# Altium integrated library Linear Technology Power Management Switching Regulator LTC1174-LTC3901.IntLib: 2647 symbols (part 117 of 364)
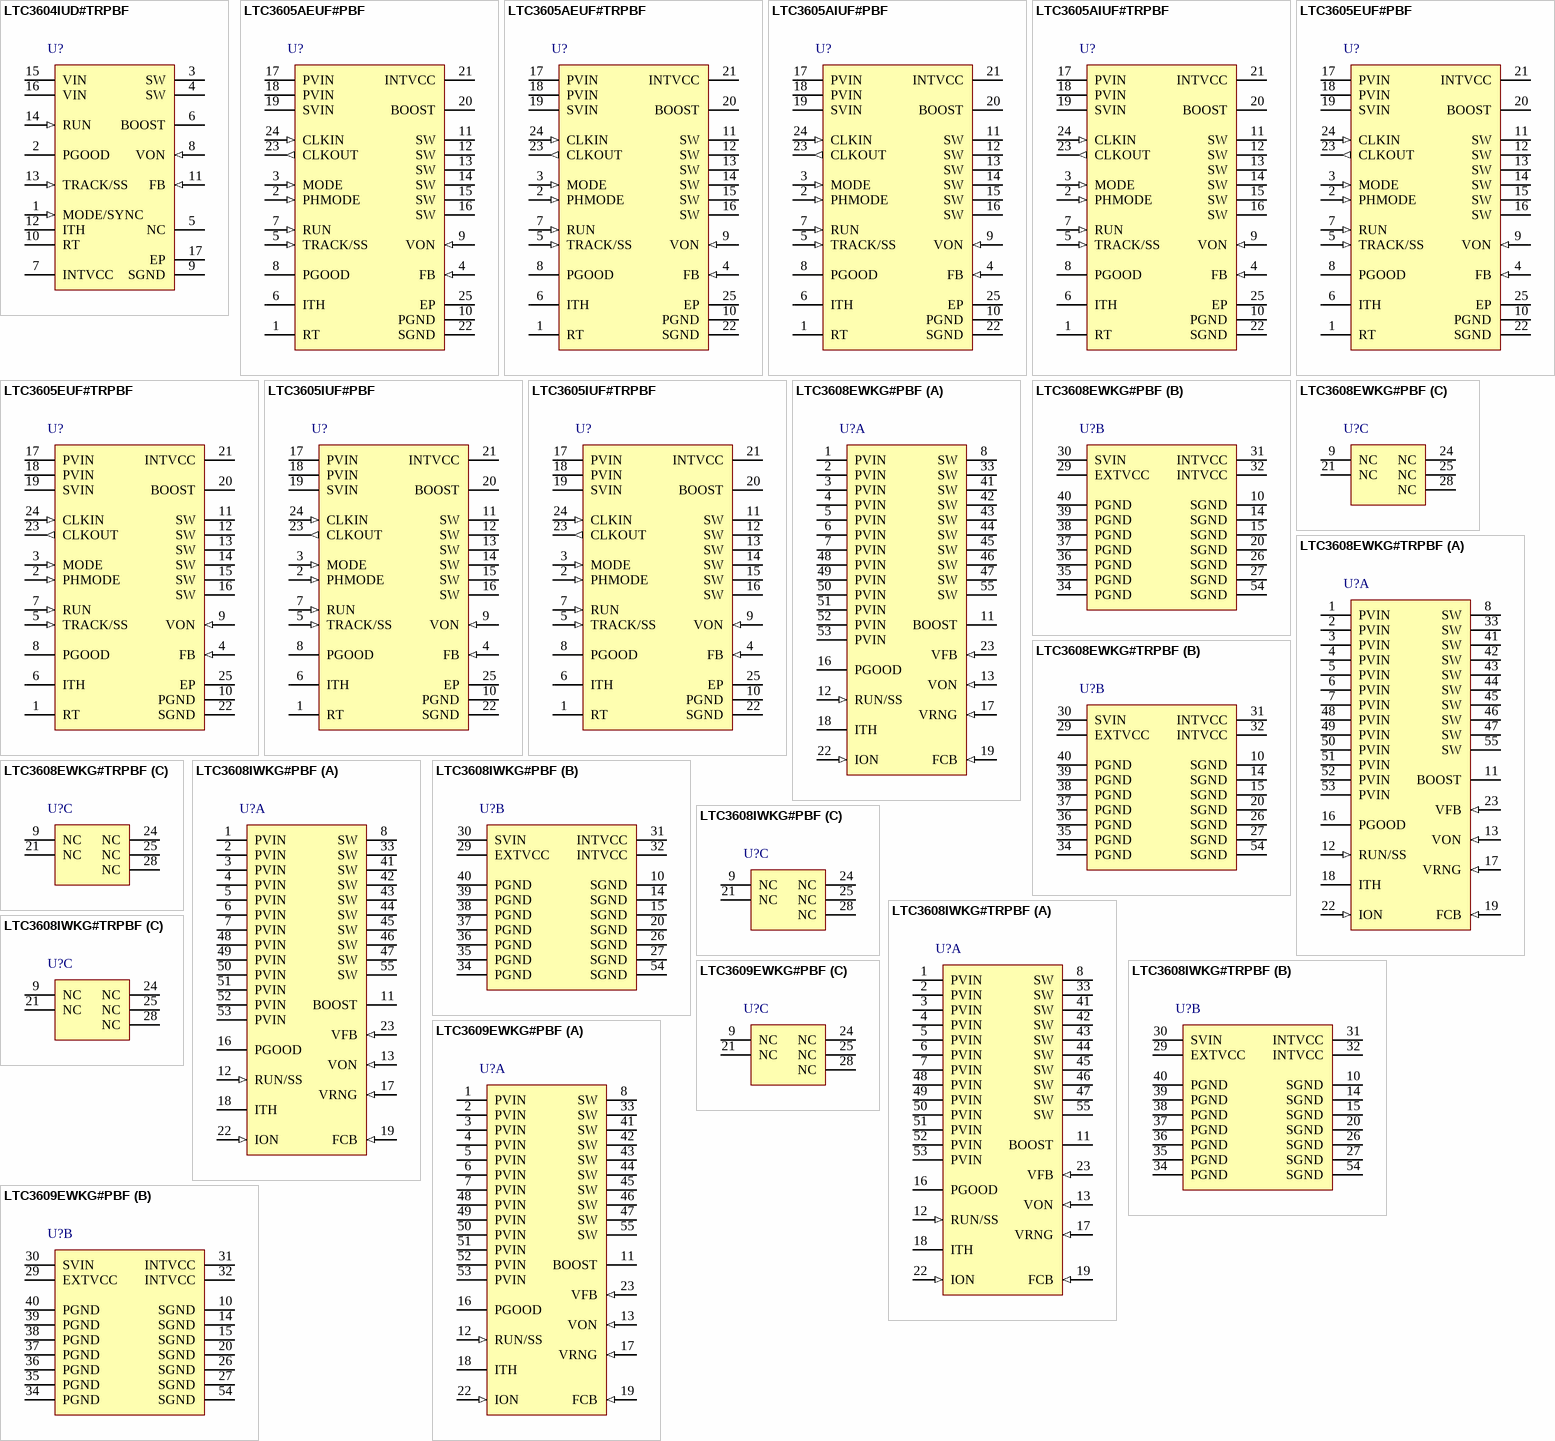
[diagram p175: symbols LTC3604IUD#TRPBF to LTC3609EWKG#PBF]

## LTC3608IWKG#PBF
designator U?
8 A Monolithic Synchronous Step-Down DC/DC Converter, 52-pin QFN (WKG-52-MPAD), -40 to 125 degC, Pb-Free; Manufacturer: Linear Technology; PartNumber: LTC3608IWKG#PBF; Number of Outputs: 1; DatasheetVersion: Rev. C; PackageVersion: Rev. A, 05/2010; PackageReference: WKG-52; PackageDescription: 52-Pin QFN Multipad, Body 8 x 7 mm, Pitch 0.5 mm; Supplier 1: Digi-Key; Supplier Part Number 1: LTC3608IWKG#PBF-ND; Supplier 2: Farnell; Supplier Part Number 2: 2295096; Supplier 3: Newark; Supplier Part Number 3: 02P7582; RoHS: TRUE; Mounting Technology: Surface Mount; ComponentLink1Description: Manufacturer URL; ComponentLink1URL: http://www.linear.com/; ComponentLink2Description: Datasheet; ComponentLink2URL: http://cds.linear.com/docs/en/datasheet/3608fc.pdf; ComponentLink3Description: Package Specification; ComponentLink3URL: http://cds.linear.com/docs/en/packaging/05081768_A_WKG52.pdf
footprint LT-WKG-52-MPAD_V (QFN, 52-Leads, Body 8x7mm, Pitch 0.5mm)
part A pins: 1 PVIN (power) "Main Input Supply. Decouple this pin to power PGND with the input capacitance, CIN.", 2 PVIN (power) "Main Input Supply. Decouple this pin to power PGND with the input capacitance, CIN.", 3 PVIN (power) "Main Input Supply. Decouple this pin to power PGND with the input capacitance, CIN.", 4 PVIN (power) "Main Input Supply. Decouple this pin to power PGND with the input capacitance, CIN.", 5 PVIN (power) "Main Input Supply. Decouple this pin to power PGND with the input capacitance, CIN.", 6 PVIN (power) "Main Input Supply. Decouple this pin to power PGND with the input capacitance, CIN.", 7 PVIN (power) "Main Input Supply. Decouple this pin to power PGND with the input capacitance, CIN.", 8 SW (power) "Switch Node Connection to the Inductor. The (-) terminal of the bootstrap capacitor, CB, also connects here. This pin swings from a diode voltage drop below ground up to VIN.", 11 BOOST "Boosted Floating Driver Supply. The (+) terminal of the bootstrap capacitor, CB, connects here. This pin swings from a diode voltage drop below INTVCC up to VIN + INTVCC.", 12 RUN/SS (in) "Run Control and Soft-Start Input. A capacitor to ground at this pin sets the ramp time to full output current (approximately 3s/uF) and the time delay for overcurrent latchoff (see Applications Information). Forcing this pin (See Datasheet)", 13 VON (in) "On-Time Voltage Input. Voltage trip point for the on-time comparator. Tying this pin to the output voltage or an external resistive divider from the output makes the on-time proportional to VOUT. The comparator input (See Datasheet)", 16 PGOOD (oc) "Power Good Output. Open-drain logic output that is pulled to ground when the output voltage is not within +/- 10% of the regulation point.", 17 VRNG (in) "Current Limit Range Input.", 18 ITH "Current Control Threshold and Error Amplifier Compensation Point. The current comparator threshold increases with this control voltage. The voltage ranges from 0V to 2.4V with 0.8V corresponding to zero sense voltage (zero (See Datasheet)", 19 FCB (in) "Forced Continuous Input. Tie this pin to ground to force continuous synchronous operation at low load, to INTVCC to enable discontinuous mode operation at low load or to a resistive divider from a secondary output when using (See Datasheet)", 22 ION (in) "On-Time Current Input. Tie a resistor from VIN to this pin to set the one-shot timer current and thereby set the switching frequency.", 23 VFB (in) "Error Amplifier Feedback Input. This pin connects the error amplifier input to an external resistive divider from VOUT.", 33 SW (power) "Switch Node Connection to the Inductor. The (-) terminal of the bootstrap capacitor, CB, also connects here. This pin swings from a diode voltage drop below ground up to VIN.", 41 SW (power) "Switch Node Connection to the Inductor. The (-) terminal of the bootstrap capacitor, CB, also connects here. This pin swings from a diode voltage drop below ground up to VIN.", 42 SW (power) "Switch Node Connection to the Inductor. The (-) terminal of the bootstrap capacitor, CB, also connects here. This pin swings from a diode voltage drop below ground up to VIN.", 43 SW (power) "Switch Node Connection to the Inductor. The (-) terminal of the bootstrap capacitor, CB, also connects here. This pin swings from a diode voltage drop below ground up to VIN.", 44 SW (power) "Switch Node Connection to the Inductor. The (-) terminal of the bootstrap capacitor, CB, also connects here. This pin swings from a diode voltage drop below ground up to VIN.", 45 SW (power) "Switch Node Connection to the Inductor. The (-) terminal of the bootstrap capacitor, CB, also connects here. This pin swings from a diode voltage drop below ground up to VIN.", 46 SW (power) "Switch Node Connection to the Inductor. The (-) terminal of the bootstrap capacitor, CB, also connects here. This pin swings from a diode voltage drop below ground up to VIN.", 47 SW (power) "Switch Node Connection to the Inductor. The (-) terminal of the bootstrap capacitor, CB, also connects here. This pin swings from a diode voltage drop below ground up to VIN.", 48 PVIN (power) "Main Input Supply. Decouple this pin to power PGND with the input capacitance, CIN.", 49 PVIN (power) "Main Input Supply. Decouple this pin to power PGND with the input capacitance, CIN.", 50 PVIN (power) "Main Input Supply. Decouple this pin to power PGND with the input capacitance, CIN.", 51 PVIN (power) "Main Input Supply. Decouple this pin to power PGND with the input capacitance, CIN.", 52 PVIN (power) "Main Input Supply. Decouple this pin to power PGND with the input capacitance, CIN.", 53 PVIN (power) "Main Input Supply. Decouple this pin to power PGND with the input capacitance, CIN.", 55 SW (power) "Switch Node Connection to the Inductor. The (-) terminal of the bootstrap capacitor, CB, also connects here. This pin swings from a diode voltage drop below ground up to VIN."
part B pins: 10 SGND (power) "Signal Ground. All small-signal components and compensation components should connect to this ground, which in turn connects to PGND at one point.", 14 SGND (power) "Signal Ground. All small-signal components and compensation components should connect to this ground, which in turn connects to PGND at one point.", 15 SGND (power) "Signal Ground. All small-signal components and compensation components should connect to this ground, which in turn connects to PGND at one point.", 20 SGND (power) "Signal Ground. All small-signal components and compensation components should connect to this ground, which in turn connects to PGND at one point.", 26 SGND (power) "Signal Ground. All small-signal components and compensation components should connect to this ground, which in turn connects to PGND at one point.", 27 SGND (power) "Signal Ground. All small-signal components and compensation components should connect to this ground, which in turn connects to PGND at one point.", 29 EXTVCC (power) "External VCC Input. When EXTVCC exceeds 4.7V, an internal switch connects this pin to INTVCC and shuts down the internal regulator so that controller and gate drive power is drawn from EXTVCC. Do not exceed 7V at this pin (See Datasheet)", 30 SVIN (power) "Supply Pin for Internal PWM Controller.", 31 INTVCC (power) "Internal 5V Regulator Output. The driver and control circuits are powered from this voltage. Decouple this pin to power ground with a minimum of 4.7uF low ESR tantalum or ceramic capacitor.", 32 INTVCC (power) "Internal 5V Regulator Output. The driver and control circuits are powered from this voltage. Decouple this pin to power ground with a minimum of 4.7uF low ESR tantalum or ceramic capacitor.", 34 PGND (power) "Power Ground. Connect this pin closely to the (-) terminal of CVCC and the (-) terminal of CIN.", 35 PGND (power) "Power Ground. Connect this pin closely to the (-) terminal of CVCC and the (-) terminal of CIN.", 36 PGND (power) "Power Ground. Connect this pin closely to the (-) terminal of CVCC and the (-) terminal of CIN.", 37 PGND (power) "Power Ground. Connect this pin closely to the (-) terminal of CVCC and the (-) terminal of CIN.", 38 PGND (power) "Power Ground. Connect this pin closely to the (-) terminal of CVCC and the (-) terminal of CIN.", 39 PGND (power) "Power Ground. Connect this pin closely to the (-) terminal of CVCC and the (-) terminal of CIN.", 40 PGND (power) "Power Ground. Connect this pin closely to the (-) terminal of CVCC and the (-) terminal of CIN.", 54 SGND (power) "Signal Ground. All small-signal components and compensation components should connect to this ground, which in turn connects to PGND at one point."
part C pins: 9 NC "No Connection.", 21 NC "No Connection.", 24 NC "No Connection.", 25 NC "No Connection.", 28 NC "No Connection."

## LTC3608IWKG#TRPBF
designator U?
8 A Monolithic Synchronous Step-Down DC/DC Converter, 52-pin QFN (WKG-52-MPAD), -40 to 125 degC, Pb-Free, Tape and Reel; Manufacturer: Linear Technology; PartNumber: LTC3608IWKG#TRPBF; Number of Outputs: 1; DatasheetVersion: Rev. C; PackageVersion: Rev. A, 05/2010; PackageReference: WKG-52; PackageDescription: 52-Pin QFN Multipad, Body 8 x 7 mm, Pitch 0.5 mm; Supplier 1: Digi-Key; Supplier Part Number 1: LTC3608IWKG#TRPBF-ND; Packing: Tape and Reel; RoHS: TRUE; Mounting Technology: Surface Mount; ComponentLink1Description: Manufacturer URL; ComponentLink1URL: http://www.linear.com/; ComponentLink2Description: Datasheet; ComponentLink2URL: http://cds.linear.com/docs/en/datasheet/3608fc.pdf; ComponentLink3Description: Package Specification; ComponentLink3URL: http://cds.linear.com/docs/en/packaging/05081768_A_WKG52.pdf
footprint LT-WKG-52-MPAD_V (QFN, 52-Leads, Body 8x7mm, Pitch 0.5mm)
part A pins: 1 PVIN (power) "Main Input Supply. Decouple this pin to power PGND with the input capacitance, CIN.", 2 PVIN (power) "Main Input Supply. Decouple this pin to power PGND with the input capacitance, CIN.", 3 PVIN (power) "Main Input Supply. Decouple this pin to power PGND with the input capacitance, CIN.", 4 PVIN (power) "Main Input Supply. Decouple this pin to power PGND with the input capacitance, CIN.", 5 PVIN (power) "Main Input Supply. Decouple this pin to power PGND with the input capacitance, CIN.", 6 PVIN (power) "Main Input Supply. Decouple this pin to power PGND with the input capacitance, CIN.", 7 PVIN (power) "Main Input Supply. Decouple this pin to power PGND with the input capacitance, CIN.", 8 SW (power) "Switch Node Connection to the Inductor. The (-) terminal of the bootstrap capacitor, CB, also connects here. This pin swings from a diode voltage drop below ground up to VIN.", 11 BOOST "Boosted Floating Driver Supply. The (+) terminal of the bootstrap capacitor, CB, connects here. This pin swings from a diode voltage drop below INTVCC up to VIN + INTVCC.", 12 RUN/SS (in) "Run Control and Soft-Start Input. A capacitor to ground at this pin sets the ramp time to full output current (approximately 3s/uF) and the time delay for overcurrent latchoff (see Applications Information). Forcing this pin (See Datasheet)", 13 VON (in) "On-Time Voltage Input. Voltage trip point for the on-time comparator. Tying this pin to the output voltage or an external resistive divider from the output makes the on-time proportional to VOUT. The comparator input (See Datasheet)", 16 PGOOD (oc) "Power Good Output. Open-drain logic output that is pulled to ground when the output voltage is not within +/- 10% of the regulation point.", 17 VRNG (in) "Current Limit Range Input.", 18 ITH "Current Control Threshold and Error Amplifier Compensation Point. The current comparator threshold increases with this control voltage. The voltage ranges from 0V to 2.4V with 0.8V corresponding to zero sense voltage (zero (See Datasheet)", 19 FCB (in) "Forced Continuous Input. Tie this pin to ground to force continuous synchronous operation at low load, to INTVCC to enable discontinuous mode operation at low load or to a resistive divider from a secondary output when using (See Datasheet)", 22 ION (in) "On-Time Current Input. Tie a resistor from VIN to this pin to set the one-shot timer current and thereby set the switching frequency.", 23 VFB (in) "Error Amplifier Feedback Input. This pin connects the error amplifier input to an external resistive divider from VOUT.", 33 SW (power) "Switch Node Connection to the Inductor. The (-) terminal of the bootstrap capacitor, CB, also connects here. This pin swings from a diode voltage drop below ground up to VIN.", 41 SW (power) "Switch Node Connection to the Inductor. The (-) terminal of the bootstrap capacitor, CB, also connects here. This pin swings from a diode voltage drop below ground up to VIN.", 42 SW (power) "Switch Node Connection to the Inductor. The (-) terminal of the bootstrap capacitor, CB, also connects here. This pin swings from a diode voltage drop below ground up to VIN.", 43 SW (power) "Switch Node Connection to the Inductor. The (-) terminal of the bootstrap capacitor, CB, also connects here. This pin swings from a diode voltage drop below ground up to VIN.", 44 SW (power) "Switch Node Connection to the Inductor. The (-) terminal of the bootstrap capacitor, CB, also connects here. This pin swings from a diode voltage drop below ground up to VIN.", 45 SW (power) "Switch Node Connection to the Inductor. The (-) terminal of the bootstrap capacitor, CB, also connects here. This pin swings from a diode voltage drop below ground up to VIN.", 46 SW (power) "Switch Node Connection to the Inductor. The (-) terminal of the bootstrap capacitor, CB, also connects here. This pin swings from a diode voltage drop below ground up to VIN.", 47 SW (power) "Switch Node Connection to the Inductor. The (-) terminal of the bootstrap capacitor, CB, also connects here. This pin swings from a diode voltage drop below ground up to VIN.", 48 PVIN (power) "Main Input Supply. Decouple this pin to power PGND with the input capacitance, CIN.", 49 PVIN (power) "Main Input Supply. Decouple this pin to power PGND with the input capacitance, CIN.", 50 PVIN (power) "Main Input Supply. Decouple this pin to power PGND with the input capacitance, CIN.", 51 PVIN (power) "Main Input Supply. Decouple this pin to power PGND with the input capacitance, CIN.", 52 PVIN (power) "Main Input Supply. Decouple this pin to power PGND with the input capacitance, CIN.", 53 PVIN (power) "Main Input Supply. Decouple this pin to power PGND with the input capacitance, CIN.", 55 SW (power) "Switch Node Connection to the Inductor. The (-) terminal of the bootstrap capacitor, CB, also connects here. This pin swings from a diode voltage drop below ground up to VIN."
part B pins: 10 SGND (power) "Signal Ground. All small-signal components and compensation components should connect to this ground, which in turn connects to PGND at one point.", 14 SGND (power) "Signal Ground. All small-signal components and compensation components should connect to this ground, which in turn connects to PGND at one point.", 15 SGND (power) "Signal Ground. All small-signal components and compensation components should connect to this ground, which in turn connects to PGND at one point.", 20 SGND (power) "Signal Ground. All small-signal components and compensation components should connect to this ground, which in turn connects to PGND at one point.", 26 SGND (power) "Signal Ground. All small-signal components and compensation components should connect to this ground, which in turn connects to PGND at one point.", 27 SGND (power) "Signal Ground. All small-signal components and compensation components should connect to this ground, which in turn connects to PGND at one point.", 29 EXTVCC (power) "External VCC Input. When EXTVCC exceeds 4.7V, an internal switch connects this pin to INTVCC and shuts down the internal regulator so that controller and gate drive power is drawn from EXTVCC. Do not exceed 7V at this pin (See Datasheet)", 30 SVIN (power) "Supply Pin for Internal PWM Controller.", 31 INTVCC (power) "Internal 5V Regulator Output. The driver and control circuits are powered from this voltage. Decouple this pin to power ground with a minimum of 4.7uF low ESR tantalum or ceramic capacitor.", 32 INTVCC (power) "Internal 5V Regulator Output. The driver and control circuits are powered from this voltage. Decouple this pin to power ground with a minimum of 4.7uF low ESR tantalum or ceramic capacitor.", 34 PGND (power) "Power Ground. Connect this pin closely to the (-) terminal of CVCC and the (-) terminal of CIN.", 35 PGND (power) "Power Ground. Connect this pin closely to the (-) terminal of CVCC and the (-) terminal of CIN.", 36 PGND (power) "Power Ground. Connect this pin closely to the (-) terminal of CVCC and the (-) terminal of CIN.", 37 PGND (power) "Power Ground. Connect this pin closely to the (-) terminal of CVCC and the (-) terminal of CIN.", 38 PGND (power) "Power Ground. Connect this pin closely to the (-) terminal of CVCC and the (-) terminal of CIN.", 39 PGND (power) "Power Ground. Connect this pin closely to the (-) terminal of CVCC and the (-) terminal of CIN.", 40 PGND (power) "Power Ground. Connect this pin closely to the (-) terminal of CVCC and the (-) terminal of CIN.", 54 SGND (power) "Signal Ground. All small-signal components and compensation components should connect to this ground, which in turn connects to PGND at one point."
part C pins: 9 NC "No Connection.", 21 NC "No Connection.", 24 NC "No Connection.", 25 NC "No Connection.", 28 NC "No Connection."

## LTC3609EWKG#PBF
designator U?
6 A Monolithic Synchronous Step-Down DC/DC Converter, 52-pin QFN (WKG-52-MPAD), -40 to 125 degC, Pb-Free; Manufacturer: Linear Technology; PartNumber: LTC3609EWKG#PBF; Number of Outputs: 1; DatasheetVersion: Rev. B; PackageVersion: Rev. A, 05/2010; PackageReference: WKG-52; PackageDescription: 52-Pin QFN Multipad, Body 8 x 7 mm, Pitch 0.5 mm; Supplier 1: Digi-Key; Supplier Part Number 1: LTC3609EWKG#PBF-ND; Supplier 2: Farnell; Supplier Part Number 2: 1696238; Supplier 3: Newark; Supplier Part Number 3: 46P5710; RoHS: TRUE; Mounting Technology: Surface Mount; ComponentLink1Description: Manufacturer URL; ComponentLink1URL: http://www.linear.com/; ComponentLink2Description: Datasheet; ComponentLink2URL: http://cds.linear.com/docs/en/datasheet/3609fb.pdf; ComponentLink3Description: Package Specification; ComponentLink3URL: http://cds.linear.com/docs/en/packaging/05081768_A_WKG52.pdf
footprint LT-WKG-52-MPAD_V (QFN, 52-Leads, Body 8x7mm, Pitch 0.5mm)
part A pins: 1 PVIN (power) "Main Input Supply. Decouple this pin to power PGND with the input capacitance, CIN.", 2 PVIN (power) "Main Input Supply. Decouple this pin to power PGND with the input capacitance, CIN.", 3 PVIN (power) "Main Input Supply. Decouple this pin to power PGND with the input capacitance, CIN.", 4 PVIN (power) "Main Input Supply. Decouple this pin to power PGND with the input capacitance, CIN.", 5 PVIN (power) "Main Input Supply. Decouple this pin to power PGND with the input capacitance, CIN.", 6 PVIN (power) "Main Input Supply. Decouple this pin to power PGND with the input capacitance, CIN.", 7 PVIN (power) "Main Input Supply. Decouple this pin to power PGND with the input capacitance, CIN.", 8 SW (power) "Switch Node Connection to the Inductor. The (-) terminal of the bootstrap capacitor, CB, also connects here. This pin swings from a diode voltage drop below ground up to VIN.", 11 BOOST "Boosted Floating Driver Supply. The (+) terminal of the bootstrap capacitor, CB, connects here. This pin swings from a diode voltage drop below INTVCC up to VIN + INTVCC.", 12 RUN/SS (in) "Run Control and Soft-Start Input. A capacitor to ground at this pin sets the ramp time to full output current (approximately 3s/uF) and the time delay for overcurrent latchoff (see Applications Information). Forcing this pin (See Datasheet)", 13 VON (in) "On-Time Voltage Input. Voltage trip point for the on-time comparator. Tying this pin to the output voltage or an external resistive divider from the output makes the on-time proportional to VOUT. The comparator input (See Datasheet)", 16 PGOOD (oc) "Power Good Output. Open-drain logic output that is pulled to ground when the output voltage is not within +/- 10% of the regulation point.", 17 VRNG (in) "Current Limit Range Input.", 18 ITH "Current Control Threshold and Error Amplifier Compensation Point. The current comparator threshold increases with this control voltage. The voltage ranges from 0V to 2.4V with 0.8V corresponding to zero sense voltage (zero (See Datasheet)", 19 FCB (in) "Forced Continuous Input. Tie this pin to ground to force continuous synchronous operation at low load, to INTVCC to enable discontinuous mode operation at low load or to a resistive divider from a secondary output when using (See Datasheet)", 22 ION (in) "On-Time Current Input. Tie a resistor from VIN to this pin to set the one-shot timer current and thereby set the switching frequency.", 23 VFB (in) "Error Amplifier Feedback Input. This pin connects the error amplifier input to an external resistive divider from VOUT.", 33 SW (power) "Switch Node Connection to the Inductor. The (-) terminal of the bootstrap capacitor, CB, also connects here. This pin swings from a diode voltage drop below ground up to VIN.", 41 SW (power) "Switch Node Connection to the Inductor. The (-) terminal of the bootstrap capacitor, CB, also connects here. This pin swings from a diode voltage drop below ground up to VIN.", 42 SW (power) "Switch Node Connection to the Inductor. The (-) terminal of the bootstrap capacitor, CB, also connects here. This pin swings from a diode voltage drop below ground up to VIN.", 43 SW (power) "Switch Node Connection to the Inductor. The (-) terminal of the bootstrap capacitor, CB, also connects here. This pin swings from a diode voltage drop below ground up to VIN.", 44 SW (power) "Switch Node Connection to the Inductor. The (-) terminal of the bootstrap capacitor, CB, also connects here. This pin swings from a diode voltage drop below ground up to VIN.", 45 SW (power) "Switch Node Connection to the Inductor. The (-) terminal of the bootstrap capacitor, CB, also connects here. This pin swings from a diode voltage drop below ground up to VIN.", 46 SW (power) "Switch Node Connection to the Inductor. The (-) terminal of the bootstrap capacitor, CB, also connects here. This pin swings from a diode voltage drop below ground up to VIN.", 47 SW (power) "Switch Node Connection to the Inductor. The (-) terminal of the bootstrap capacitor, CB, also connects here. This pin swings from a diode voltage drop below ground up to VIN.", 48 PVIN (power) "Main Input Supply. Decouple this pin to power PGND with the input capacitance, CIN.", 49 PVIN (power) "Main Input Supply. Decouple this pin to power PGND with the input capacitance, CIN.", 50 PVIN (power) "Main Input Supply. Decouple this pin to power PGND with the input capacitance, CIN.", 51 PVIN (power) "Main Input Supply. Decouple this pin to power PGND with the input capacitance, CIN.", 52 PVIN (power) "Main Input Supply. Decouple this pin to power PGND with the input capacitance, CIN.", 53 PVIN (power) "Main Input Supply. Decouple this pin to power PGND with the input capacitance, CIN.", 55 SW (power) "Switch Node Connection to the Inductor. The (-) terminal of the bootstrap capacitor, CB, also connects here. This pin swings from a diode voltage drop below ground up to VIN."
part B pins: 10 SGND (power) "Signal Ground. All small-signal components and compensation components should connect to this ground, which in turn connects to PGND at one point.", 14 SGND (power) "Signal Ground. All small-signal components and compensation components should connect to this ground, which in turn connects to PGND at one point.", 15 SGND (power) "Signal Ground. All small-signal components and compensation components should connect to this ground, which in turn connects to PGND at one point.", 20 SGND (power) "Signal Ground. All small-signal components and compensation components should connect to this ground, which in turn connects to PGND at one point.", 26 SGND (power) "Signal Ground. All small-signal components and compensation components should connect to this ground, which in turn connects to PGND at one point.", 27 SGND (power) "Signal Ground. All small-signal components and compensation components should connect to this ground, which in turn connects to PGND at one point.", 29 EXTVCC (power) "External VCC Input. When EXTVCC exceeds 4.7V, an internal switch connects this pin to INTVCC and shuts down the internal regulator so that controller and gate drive power is drawn from EXTVCC. Do not exceed 7V at this pin (See Datasheet)", 30 SVIN (power) "Supply Pin for Internal PWM Controller.", 31 INTVCC (power) "Internal 5V Regulator Output. The driver and control circuits are powered from this voltage. Decouple this pin to power ground with a minimum of 4.7uF low ESR tantalum or ceramic capacitor.", 32 INTVCC (power) "Internal 5V Regulator Output. The driver and control circuits are powered from this voltage. Decouple this pin to power ground with a minimum of 4.7uF low ESR tantalum or ceramic capacitor.", 34 PGND (power) "Power Ground. Connect this pin closely to the (-) terminal of CVCC and the (-) terminal of CIN.", 35 PGND (power) "Power Ground. Connect this pin closely to the (-) terminal of CVCC and the (-) terminal of CIN.", 36 PGND (power) "Power Ground. Connect this pin closely to the (-) terminal of CVCC and the (-) terminal of CIN.", 37 PGND (power) "Power Ground. Connect this pin closely to the (-) terminal of CVCC and the (-) terminal of CIN.", 38 PGND (power) "Power Ground. Connect this pin closely to the (-) terminal of CVCC and the (-) terminal of CIN.", 39 PGND (power) "Power Ground. Connect this pin closely to the (-) terminal of CVCC and the (-) terminal of CIN.", 40 PGND (power) "Power Ground. Connect this pin closely to the (-) terminal of CVCC and the (-) terminal of CIN.", 54 SGND (power) "Signal Ground. All small-signal components and compensation components should connect to this ground, which in turn connects to PGND at one point."
part C pins: 9 NC "No Connection.", 21 NC "No Connection.", 24 NC "No Connection.", 25 NC "No Connection.", 28 NC "No Connection."

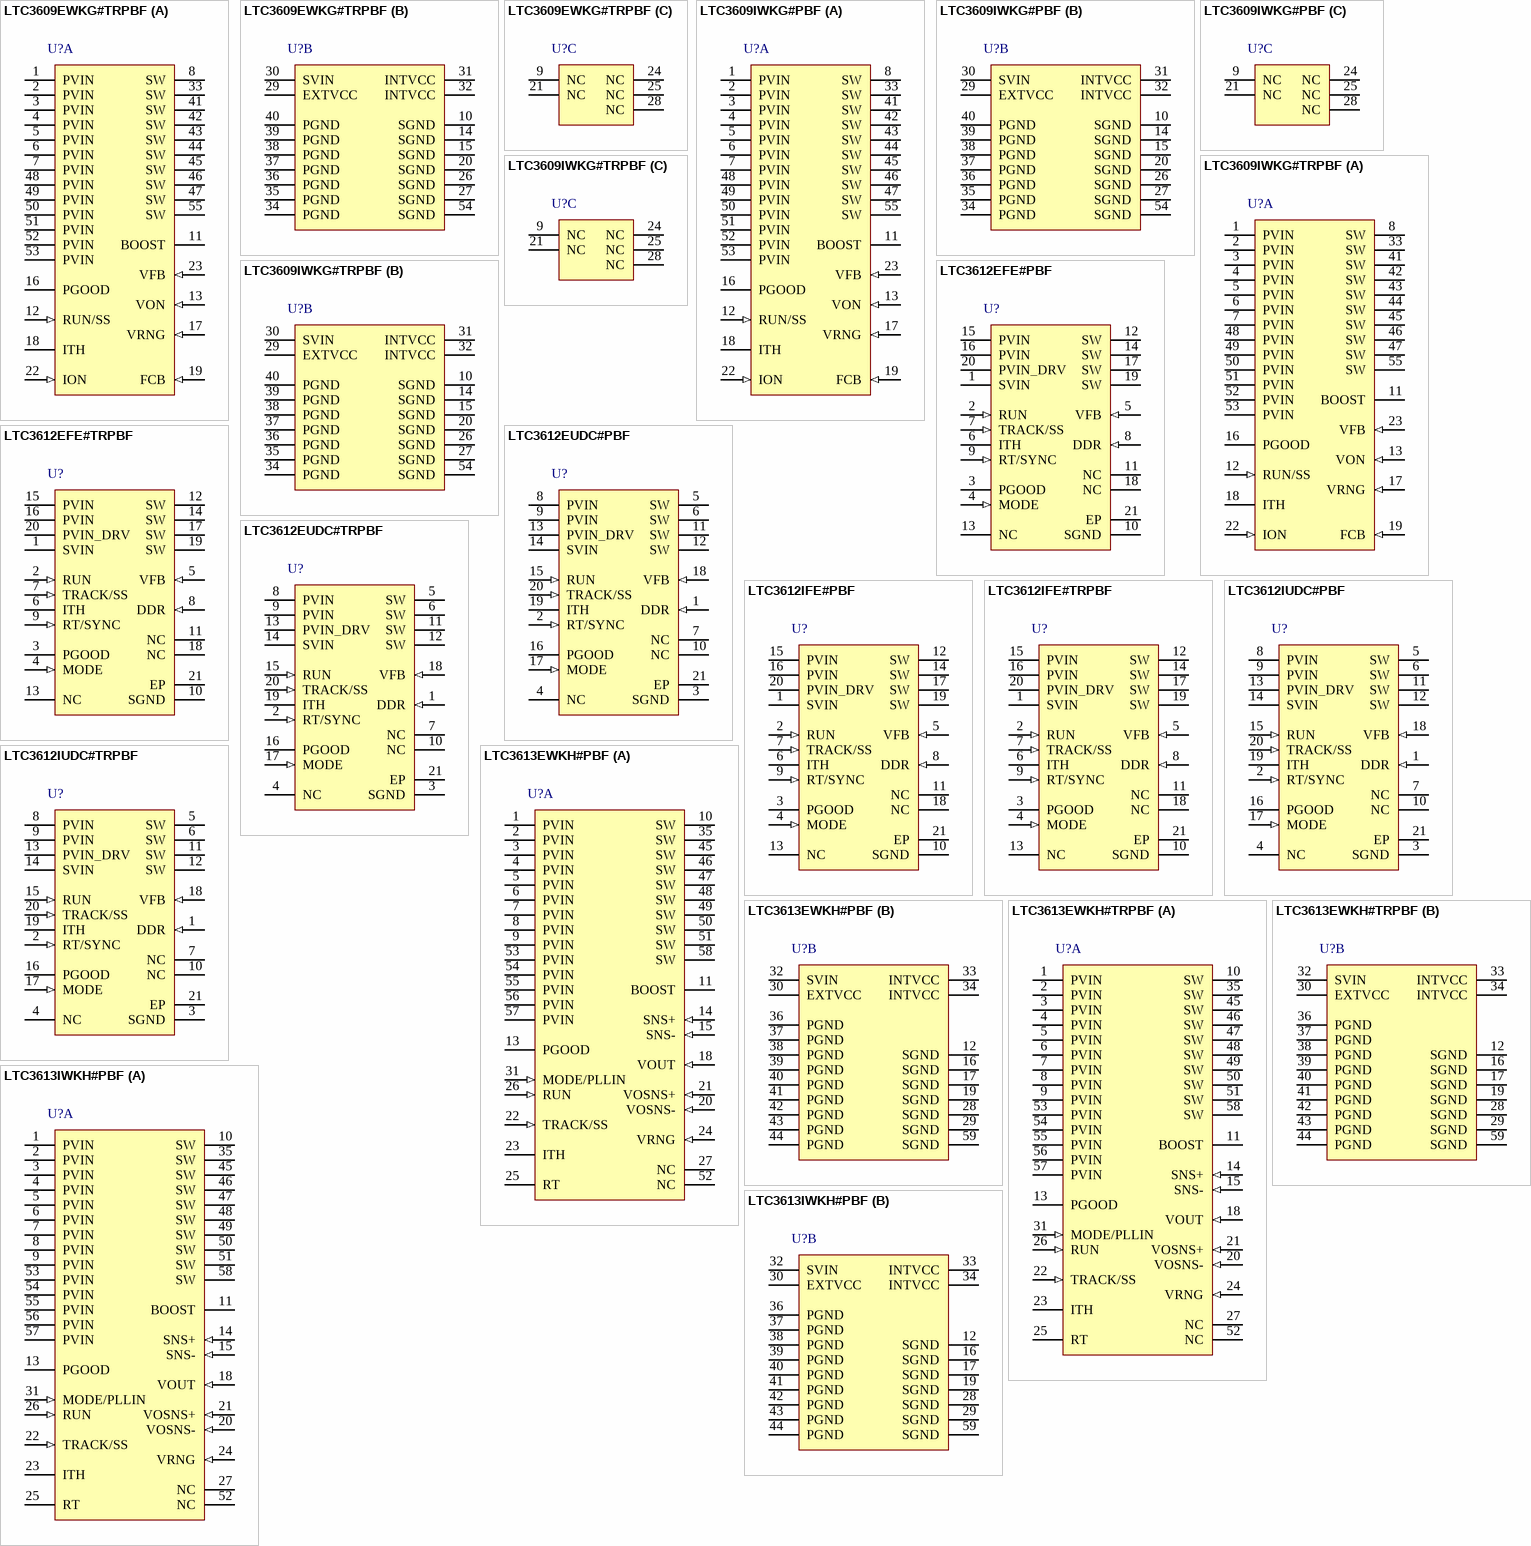
[diagram p38: symbols LTC3609EWKG#TRPBF to LTC3613IWKH#PBF]

## LTC3609EWKG#TRPBF
designator U?
6 A Monolithic Synchronous Step-Down DC/DC Converter, 52-pin QFN (WKG-52-MPAD), -40 to 125 degC, Pb-Free, Tape and Reel; Manufacturer: Linear Technology; PartNumber: LTC3609EWKG#TRPBF; Number of Outputs: 1; DatasheetVersion: Rev. B; PackageVersion: Rev. A, 05/2010; PackageReference: WKG-52; PackageDescription: 52-Pin QFN Multipad, Body 8 x 7 mm, Pitch 0.5 mm; Supplier 1: Digi-Key; Supplier Part Number 1: LTC3609EWKG#TRPBF-ND; Packing: Tape and Reel; RoHS: TRUE; Mounting Technology: Surface Mount; ComponentLink1Description: Manufacturer URL; ComponentLink1URL: http://www.linear.com/; ComponentLink2Description: Datasheet; ComponentLink2URL: http://cds.linear.com/docs/en/datasheet/3609fb.pdf; ComponentLink3Description: Package Specification; ComponentLink3URL: http://cds.linear.com/docs/en/packaging/05081768_A_WKG52.pdf
footprint LT-WKG-52-MPAD_V (QFN, 52-Leads, Body 8x7mm, Pitch 0.5mm)
part A pins: 1 PVIN (power) "Main Input Supply. Decouple this pin to power PGND with the input capacitance, CIN.", 2 PVIN (power) "Main Input Supply. Decouple this pin to power PGND with the input capacitance, CIN.", 3 PVIN (power) "Main Input Supply. Decouple this pin to power PGND with the input capacitance, CIN.", 4 PVIN (power) "Main Input Supply. Decouple this pin to power PGND with the input capacitance, CIN.", 5 PVIN (power) "Main Input Supply. Decouple this pin to power PGND with the input capacitance, CIN.", 6 PVIN (power) "Main Input Supply. Decouple this pin to power PGND with the input capacitance, CIN.", 7 PVIN (power) "Main Input Supply. Decouple this pin to power PGND with the input capacitance, CIN.", 8 SW (power) "Switch Node Connection to the Inductor. The (-) terminal of the bootstrap capacitor, CB, also connects here. This pin swings from a diode voltage drop below ground up to VIN.", 11 BOOST "Boosted Floating Driver Supply. The (+) terminal of the bootstrap capacitor, CB, connects here. This pin swings from a diode voltage drop below INTVCC up to VIN + INTVCC.", 12 RUN/SS (in) "Run Control and Soft-Start Input. A capacitor to ground at this pin sets the ramp time to full output current (approximately 3s/uF) and the time delay for overcurrent latchoff (see Applications Information). Forcing this pin (See Datasheet)", 13 VON (in) "On-Time Voltage Input. Voltage trip point for the on-time comparator. Tying this pin to the output voltage or an external resistive divider from the output makes the on-time proportional to VOUT. The comparator input (See Datasheet)", 16 PGOOD (oc) "Power Good Output. Open-drain logic output that is pulled to ground when the output voltage is not within +/- 10% of the regulation point.", 17 VRNG (in) "Current Limit Range Input.", 18 ITH "Current Control Threshold and Error Amplifier Compensation Point. The current comparator threshold increases with this control voltage. The voltage ranges from 0V to 2.4V with 0.8V corresponding to zero sense voltage (zero (See Datasheet)", 19 FCB (in) "Forced Continuous Input. Tie this pin to ground to force continuous synchronous operation at low load, to INTVCC to enable discontinuous mode operation at low load or to a resistive divider from a secondary output when using (See Datasheet)", 22 ION (in) "On-Time Current Input. Tie a resistor from VIN to this pin to set the one-shot timer current and thereby set the switching frequency.", 23 VFB (in) "Error Amplifier Feedback Input. This pin connects the error amplifier input to an external resistive divider from VOUT.", 33 SW (power) "Switch Node Connection to the Inductor. The (-) terminal of the bootstrap capacitor, CB, also connects here. This pin swings from a diode voltage drop below ground up to VIN.", 41 SW (power) "Switch Node Connection to the Inductor. The (-) terminal of the bootstrap capacitor, CB, also connects here. This pin swings from a diode voltage drop below ground up to VIN.", 42 SW (power) "Switch Node Connection to the Inductor. The (-) terminal of the bootstrap capacitor, CB, also connects here. This pin swings from a diode voltage drop below ground up to VIN.", 43 SW (power) "Switch Node Connection to the Inductor. The (-) terminal of the bootstrap capacitor, CB, also connects here. This pin swings from a diode voltage drop below ground up to VIN.", 44 SW (power) "Switch Node Connection to the Inductor. The (-) terminal of the bootstrap capacitor, CB, also connects here. This pin swings from a diode voltage drop below ground up to VIN.", 45 SW (power) "Switch Node Connection to the Inductor. The (-) terminal of the bootstrap capacitor, CB, also connects here. This pin swings from a diode voltage drop below ground up to VIN.", 46 SW (power) "Switch Node Connection to the Inductor. The (-) terminal of the bootstrap capacitor, CB, also connects here. This pin swings from a diode voltage drop below ground up to VIN.", 47 SW (power) "Switch Node Connection to the Inductor. The (-) terminal of the bootstrap capacitor, CB, also connects here. This pin swings from a diode voltage drop below ground up to VIN.", 48 PVIN (power) "Main Input Supply. Decouple this pin to power PGND with the input capacitance, CIN.", 49 PVIN (power) "Main Input Supply. Decouple this pin to power PGND with the input capacitance, CIN.", 50 PVIN (power) "Main Input Supply. Decouple this pin to power PGND with the input capacitance, CIN.", 51 PVIN (power) "Main Input Supply. Decouple this pin to power PGND with the input capacitance, CIN.", 52 PVIN (power) "Main Input Supply. Decouple this pin to power PGND with the input capacitance, CIN.", 53 PVIN (power) "Main Input Supply. Decouple this pin to power PGND with the input capacitance, CIN.", 55 SW (power) "Switch Node Connection to the Inductor. The (-) terminal of the bootstrap capacitor, CB, also connects here. This pin swings from a diode voltage drop below ground up to VIN."
part B pins: 10 SGND (power) "Signal Ground. All small-signal components and compensation components should connect to this ground, which in turn connects to PGND at one point.", 14 SGND (power) "Signal Ground. All small-signal components and compensation components should connect to this ground, which in turn connects to PGND at one point.", 15 SGND (power) "Signal Ground. All small-signal components and compensation components should connect to this ground, which in turn connects to PGND at one point.", 20 SGND (power) "Signal Ground. All small-signal components and compensation components should connect to this ground, which in turn connects to PGND at one point.", 26 SGND (power) "Signal Ground. All small-signal components and compensation components should connect to this ground, which in turn connects to PGND at one point.", 27 SGND (power) "Signal Ground. All small-signal components and compensation components should connect to this ground, which in turn connects to PGND at one point.", 29 EXTVCC (power) "External VCC Input. When EXTVCC exceeds 4.7V, an internal switch connects this pin to INTVCC and shuts down the internal regulator so that controller and gate drive power is drawn from EXTVCC. Do not exceed 7V at this pin (See Datasheet)", 30 SVIN (power) "Supply Pin for Internal PWM Controller.", 31 INTVCC (power) "Internal 5V Regulator Output. The driver and control circuits are powered from this voltage. Decouple this pin to power ground with a minimum of 4.7uF low ESR tantalum or ceramic capacitor.", 32 INTVCC (power) "Internal 5V Regulator Output. The driver and control circuits are powered from this voltage. Decouple this pin to power ground with a minimum of 4.7uF low ESR tantalum or ceramic capacitor.", 34 PGND (power) "Power Ground. Connect this pin closely to the (-) terminal of CVCC and the (-) terminal of CIN.", 35 PGND (power) "Power Ground. Connect this pin closely to the (-) terminal of CVCC and the (-) terminal of CIN.", 36 PGND (power) "Power Ground. Connect this pin closely to the (-) terminal of CVCC and the (-) terminal of CIN.", 37 PGND (power) "Power Ground. Connect this pin closely to the (-) terminal of CVCC and the (-) terminal of CIN.", 38 PGND (power) "Power Ground. Connect this pin closely to the (-) terminal of CVCC and the (-) terminal of CIN.", 39 PGND (power) "Power Ground. Connect this pin closely to the (-) terminal of CVCC and the (-) terminal of CIN.", 40 PGND (power) "Power Ground. Connect this pin closely to the (-) terminal of CVCC and the (-) terminal of CIN.", 54 SGND (power) "Signal Ground. All small-signal components and compensation components should connect to this ground, which in turn connects to PGND at one point."
part C pins: 9 NC "No Connection.", 21 NC "No Connection.", 24 NC "No Connection.", 25 NC "No Connection.", 28 NC "No Connection."

## LTC3609IWKG#PBF
designator U?
6 A Monolithic Synchronous Step-Down DC/DC Converter, 52-pin QFN (WKG-52-MPAD), -40 to 125 degC, Pb-Free; Manufacturer: Linear Technology; PartNumber: LTC3609IWKG#PBF; Number of Outputs: 1; DatasheetVersion: Rev. B; PackageVersion: Rev. A, 05/2010; PackageReference: WKG-52; PackageDescription: 52-Pin QFN Multipad, Body 8 x 7 mm, Pitch 0.5 mm; Supplier 1: Digi-Key; Supplier Part Number 1: LTC3609IWKG#PBF-ND; Supplier 2: Farnell; Supplier Part Number 2: 2295097; RoHS: TRUE; Mounting Technology: Surface Mount; ComponentLink1Description: Manufacturer URL; ComponentLink1URL: http://www.linear.com/; ComponentLink2Description: Datasheet; ComponentLink2URL: http://cds.linear.com/docs/en/datasheet/3609fb.pdf; ComponentLink3Description: Package Specification; ComponentLink3URL: http://cds.linear.com/docs/en/packaging/05081768_A_WKG52.pdf
footprint LT-WKG-52-MPAD_V (QFN, 52-Leads, Body 8x7mm, Pitch 0.5mm)
part A pins: 1 PVIN (power) "Main Input Supply. Decouple this pin to power PGND with the input capacitance, CIN.", 2 PVIN (power) "Main Input Supply. Decouple this pin to power PGND with the input capacitance, CIN.", 3 PVIN (power) "Main Input Supply. Decouple this pin to power PGND with the input capacitance, CIN.", 4 PVIN (power) "Main Input Supply. Decouple this pin to power PGND with the input capacitance, CIN.", 5 PVIN (power) "Main Input Supply. Decouple this pin to power PGND with the input capacitance, CIN.", 6 PVIN (power) "Main Input Supply. Decouple this pin to power PGND with the input capacitance, CIN.", 7 PVIN (power) "Main Input Supply. Decouple this pin to power PGND with the input capacitance, CIN.", 8 SW (power) "Switch Node Connection to the Inductor. The (-) terminal of the bootstrap capacitor, CB, also connects here. This pin swings from a diode voltage drop below ground up to VIN.", 11 BOOST "Boosted Floating Driver Supply. The (+) terminal of the bootstrap capacitor, CB, connects here. This pin swings from a diode voltage drop below INTVCC up to VIN + INTVCC.", 12 RUN/SS (in) "Run Control and Soft-Start Input. A capacitor to ground at this pin sets the ramp time to full output current (approximately 3s/uF) and the time delay for overcurrent latchoff (see Applications Information). Forcing this pin (See Datasheet)", 13 VON (in) "On-Time Voltage Input. Voltage trip point for the on-time comparator. Tying this pin to the output voltage or an external resistive divider from the output makes the on-time proportional to VOUT. The comparator input (See Datasheet)", 16 PGOOD (oc) "Power Good Output. Open-drain logic output that is pulled to ground when the output voltage is not within +/- 10% of the regulation point.", 17 VRNG (in) "Current Limit Range Input.", 18 ITH "Current Control Threshold and Error Amplifier Compensation Point. The current comparator threshold increases with this control voltage. The voltage ranges from 0V to 2.4V with 0.8V corresponding to zero sense voltage (zero (See Datasheet)", 19 FCB (in) "Forced Continuous Input. Tie this pin to ground to force continuous synchronous operation at low load, to INTVCC to enable discontinuous mode operation at low load or to a resistive divider from a secondary output when using (See Datasheet)", 22 ION (in) "On-Time Current Input. Tie a resistor from VIN to this pin to set the one-shot timer current and thereby set the switching frequency.", 23 VFB (in) "Error Amplifier Feedback Input. This pin connects the error amplifier input to an external resistive divider from VOUT.", 33 SW (power) "Switch Node Connection to the Inductor. The (-) terminal of the bootstrap capacitor, CB, also connects here. This pin swings from a diode voltage drop below ground up to VIN.", 41 SW (power) "Switch Node Connection to the Inductor. The (-) terminal of the bootstrap capacitor, CB, also connects here. This pin swings from a diode voltage drop below ground up to VIN.", 42 SW (power) "Switch Node Connection to the Inductor. The (-) terminal of the bootstrap capacitor, CB, also connects here. This pin swings from a diode voltage drop below ground up to VIN.", 43 SW (power) "Switch Node Connection to the Inductor. The (-) terminal of the bootstrap capacitor, CB, also connects here. This pin swings from a diode voltage drop below ground up to VIN.", 44 SW (power) "Switch Node Connection to the Inductor. The (-) terminal of the bootstrap capacitor, CB, also connects here. This pin swings from a diode voltage drop below ground up to VIN.", 45 SW (power) "Switch Node Connection to the Inductor. The (-) terminal of the bootstrap capacitor, CB, also connects here. This pin swings from a diode voltage drop below ground up to VIN.", 46 SW (power) "Switch Node Connection to the Inductor. The (-) terminal of the bootstrap capacitor, CB, also connects here. This pin swings from a diode voltage drop below ground up to VIN.", 47 SW (power) "Switch Node Connection to the Inductor. The (-) terminal of the bootstrap capacitor, CB, also connects here. This pin swings from a diode voltage drop below ground up to VIN.", 48 PVIN (power) "Main Input Supply. Decouple this pin to power PGND with the input capacitance, CIN.", 49 PVIN (power) "Main Input Supply. Decouple this pin to power PGND with the input capacitance, CIN.", 50 PVIN (power) "Main Input Supply. Decouple this pin to power PGND with the input capacitance, CIN.", 51 PVIN (power) "Main Input Supply. Decouple this pin to power PGND with the input capacitance, CIN.", 52 PVIN (power) "Main Input Supply. Decouple this pin to power PGND with the input capacitance, CIN.", 53 PVIN (power) "Main Input Supply. Decouple this pin to power PGND with the input capacitance, CIN.", 55 SW (power) "Switch Node Connection to the Inductor. The (-) terminal of the bootstrap capacitor, CB, also connects here. This pin swings from a diode voltage drop below ground up to VIN."
part B pins: 10 SGND (power) "Signal Ground. All small-signal components and compensation components should connect to this ground, which in turn connects to PGND at one point.", 14 SGND (power) "Signal Ground. All small-signal components and compensation components should connect to this ground, which in turn connects to PGND at one point.", 15 SGND (power) "Signal Ground. All small-signal components and compensation components should connect to this ground, which in turn connects to PGND at one point.", 20 SGND (power) "Signal Ground. All small-signal components and compensation components should connect to this ground, which in turn connects to PGND at one point.", 26 SGND (power) "Signal Ground. All small-signal components and compensation components should connect to this ground, which in turn connects to PGND at one point.", 27 SGND (power) "Signal Ground. All small-signal components and compensation components should connect to this ground, which in turn connects to PGND at one point.", 29 EXTVCC (power) "External VCC Input. When EXTVCC exceeds 4.7V, an internal switch connects this pin to INTVCC and shuts down the internal regulator so that controller and gate drive power is drawn from EXTVCC. Do not exceed 7V at this pin (See Datasheet)", 30 SVIN (power) "Supply Pin for Internal PWM Controller.", 31 INTVCC (power) "Internal 5V Regulator Output. The driver and control circuits are powered from this voltage. Decouple this pin to power ground with a minimum of 4.7uF low ESR tantalum or ceramic capacitor.", 32 INTVCC (power) "Internal 5V Regulator Output. The driver and control circuits are powered from this voltage. Decouple this pin to power ground with a minimum of 4.7uF low ESR tantalum or ceramic capacitor.", 34 PGND (power) "Power Ground. Connect this pin closely to the (-) terminal of CVCC and the (-) terminal of CIN.", 35 PGND (power) "Power Ground. Connect this pin closely to the (-) terminal of CVCC and the (-) terminal of CIN.", 36 PGND (power) "Power Ground. Connect this pin closely to the (-) terminal of CVCC and the (-) terminal of CIN.", 37 PGND (power) "Power Ground. Connect this pin closely to the (-) terminal of CVCC and the (-) terminal of CIN.", 38 PGND (power) "Power Ground. Connect this pin closely to the (-) terminal of CVCC and the (-) terminal of CIN.", 39 PGND (power) "Power Ground. Connect this pin closely to the (-) terminal of CVCC and the (-) terminal of CIN.", 40 PGND (power) "Power Ground. Connect this pin closely to the (-) terminal of CVCC and the (-) terminal of CIN.", 54 SGND (power) "Signal Ground. All small-signal components and compensation components should connect to this ground, which in turn connects to PGND at one point."
part C pins: 9 NC "No Connection.", 21 NC "No Connection.", 24 NC "No Connection.", 25 NC "No Connection.", 28 NC "No Connection."